# EAGLE library part TPS5430DDA (library TPS5430DDA)
TPS5430DDA, Switching Regulator, Buck Controller, 3A, Adjustable, 1.22 to 31V, 500kHz, 8-Pin SOIC Source: Datasheet <https://datasheet.datasheetarchive.com/originals/distributors/Datasheets-SFU2/DSASFU100034215.pdf>
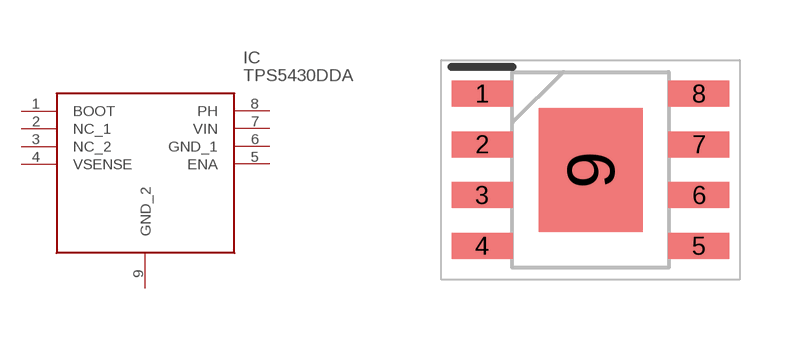
[diagram p0: symbol with the pads of SOIC127P600X170-9N; footprint SOIC127P600X170-9N]

Designator prefix IC

## TPS5430DDA (Description: TPS5430DDA, Switching Regulator, Buck Controller, 3A, Adjustable, 1.22 to 31V, 500kHz, 8-Pin SOIC; Height: 1.7mm; Manufacturer_Name: Texas Instruments; Manufacturer_Part_Number: TPS5430DDA; Mouser_Part_Number: 595-TPS5430DDA; Mouser_Price-Stock: https://www.mouser.co.uk/ProductDetail/Texas-Instruments/TPS5430DDA?qs=zwk82MlA57bk5fOPRvfoCA%3D%3D)  [SOIC127P600X170-9N]
1  BOOT
2  NC_1
3  NC_2
4  VSENSE
5  ENA
6  GND_1
7  VIN
8  PH
9  GND_2

## Footprint SOIC127P600X170-9N (pad centres in mm)
DDA0008J
smd 1.525 x 0.65: 1 -2.712,1.905; 2 -2.712,0.635; 3 -2.712,-0.635; 4 -2.712,-1.905; 5 2.712,-1.905; 6 2.712,-0.635; 7 2.712,0.635; 8 2.712,1.905
smd 2.6 x 3.1: 9 0,0